# Altium footprint library RT_BEAD_TH_1inch.PcbLib: 1 footprints
Each footprint in its own frame and in the unit in brackets; x right, y up, seen from the top. Pads: shape width x height; smd on the part's side, far side on the other; paste and mask are expansions set on the pad; w line width, h text height; cw(c..) or ccw(c..) is an arc to the next point about the centre after c.
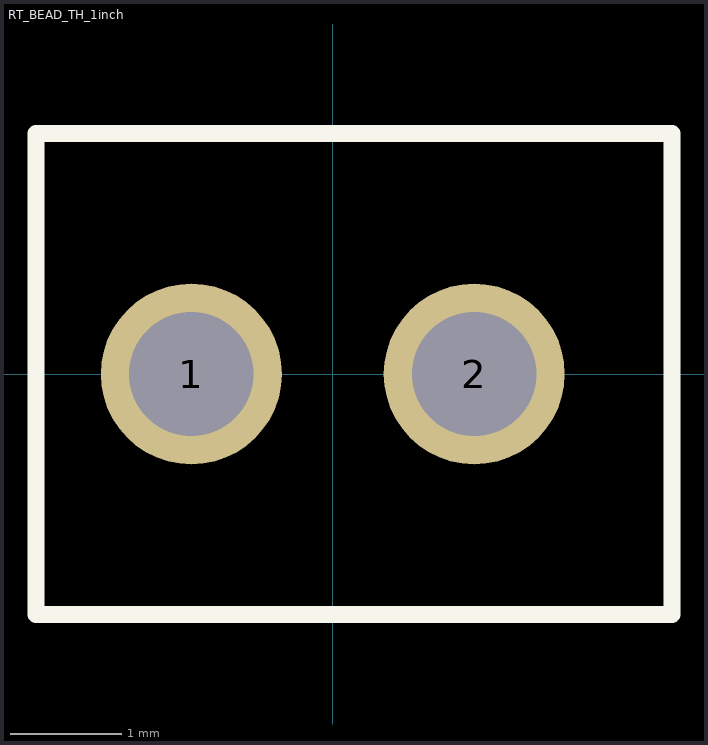
[diagram p0: the footprint, top view; thin cyan lines are the x and y axes]

## RT_BEAD_TH_1inch [mil] "NTC Thermistor Bead"
pads (2):
  round 64 hole 44: 1(-50,0) 2(50,0)
Top Overlay:
  lines w6: -105,-85 -105,85 120,85 120,-85 -105,-85
3D body "Vishay Intertechnology-NTCLE203E3103SB0 10k.STEP": height 1064.89, standoff -785.43, extent -82.64,-78.73 81.97,78.74